# Altium footprint library 691321300004.PcbLib: 1 footprints
Each footprint in its own frame and in the unit in brackets; x right, y up, seen from the top. Pads: shape width x height; smd on the part's side, far side on the other; paste and mask are expansions set on the pad; w line width, h text height; cw(c..) or ccw(c..) is an arc to the next point about the centre after c.
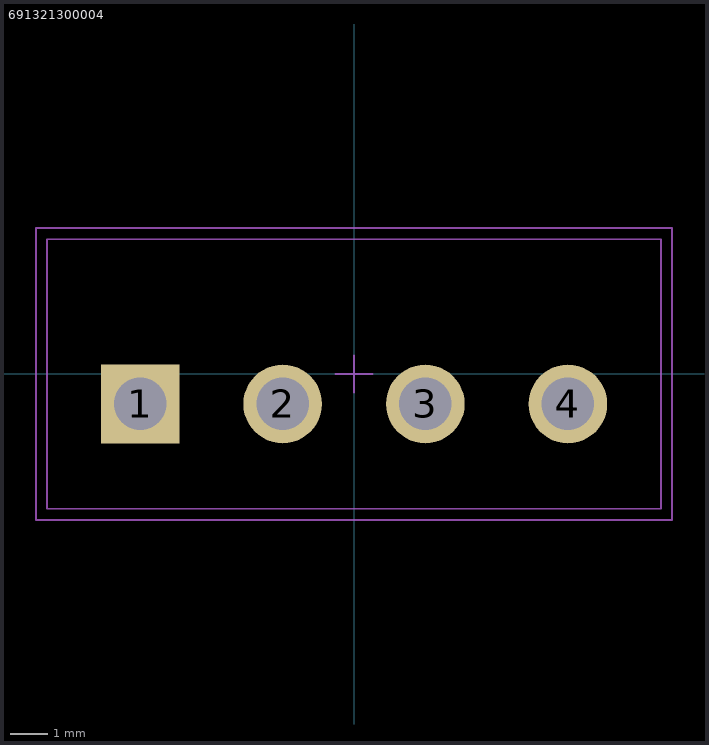
[diagram p0: the footprint, top view; thin cyan lines are the x and y axes]

## 691321300004 [mm]
pads (4):
  rect 2.1x2.1 hole 1.4: 1(-5.715,-0.8)
  round 2.1 hole 1.4: 2(-1.905,-0.8) 3(1.905,-0.8) 4(5.715,-0.8)
Top Assembly:
  lines w0.05: -8.2,-3.6 -8.2,3.6 8.2,3.6 8.2,-3.6 -8.2,-3.6
Top Courtyard:
  lines w0.05: -8.5,-3.9 -8.5,3.9 8.5,3.9 8.5,-3.9 -8.5,-3.9
Mechanical 15:
  lines w0.05: -0.5,0 0.5,0 ; 0,-0.5 0,0.5
3D body "691321300004.stp": height 9.25, standoff -3.45, extent -8.215,-3.6 8.215,3.6